# Altium footprint library PCB - LEADED - SOT - TI SOT-583 DRL.PCBLIB: 1 footprints
Each footprint in its own frame and in the unit in brackets; x right, y up, seen from the top. Pads: shape width x height; smd on the part's side, far side on the other; paste and mask are expansions set on the pad; w line width, h text height; cw(c..) or ccw(c..) is an arc to the next point about the centre after c.
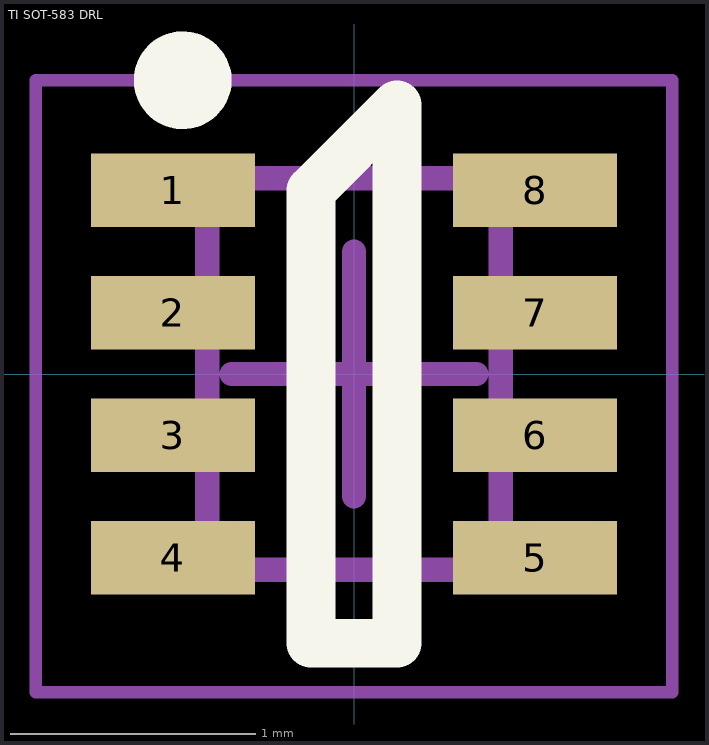
[diagram p0: the footprint, top view; thin cyan lines are the x and y axes]

## TI SOT-583 DRL [mm] "SOT DRL, 8-Leads, Body 1.10x1.60mm, Pitch 0.5mm"
height 0.6
pads (8):
  rect 0.67x0.3 smd mask+0.07: 1(-0.74,0.75) 2(-0.74,0.25) 3(-0.74,-0.25) 4(-0.74,-0.75) 5(0.74,-0.75) 6(0.74,-0.25) 7(0.74,0.25) 8(0.74,0.75)
Top Overlay:
  circle w0.2: c-0.7,1.2 r0.1
  lines w0.2: -0.175,-1.1 0.175,-1.1 0.175,1.1 -0.175,0.75 -0.175,-1.1
Mechanical 13:
  lines w0.1: -0.6,-0.8 -0.6,0.8 0.6,0.8 0.6,-0.8 -0.6,-0.8
Mechanical 15:
  lines w0.05: -1.3,-1.3 1.3,-1.3 1.3,1.2 -1.3,1.2 -1.3,-1.3
  lines w0.1: -0.5,0 0.5,0 ; 0,-0.5 0,0.5
3D body "TI SOT-583 DRL0008A.step": height 0.6, standoff 0, extent -0.8,-1.05 0.8,1.05